# Altium schematic symbol library tomorn.SCHLIB: 47 symbols
Pins are listed as number, name and electrical type; pins without a type are passive.

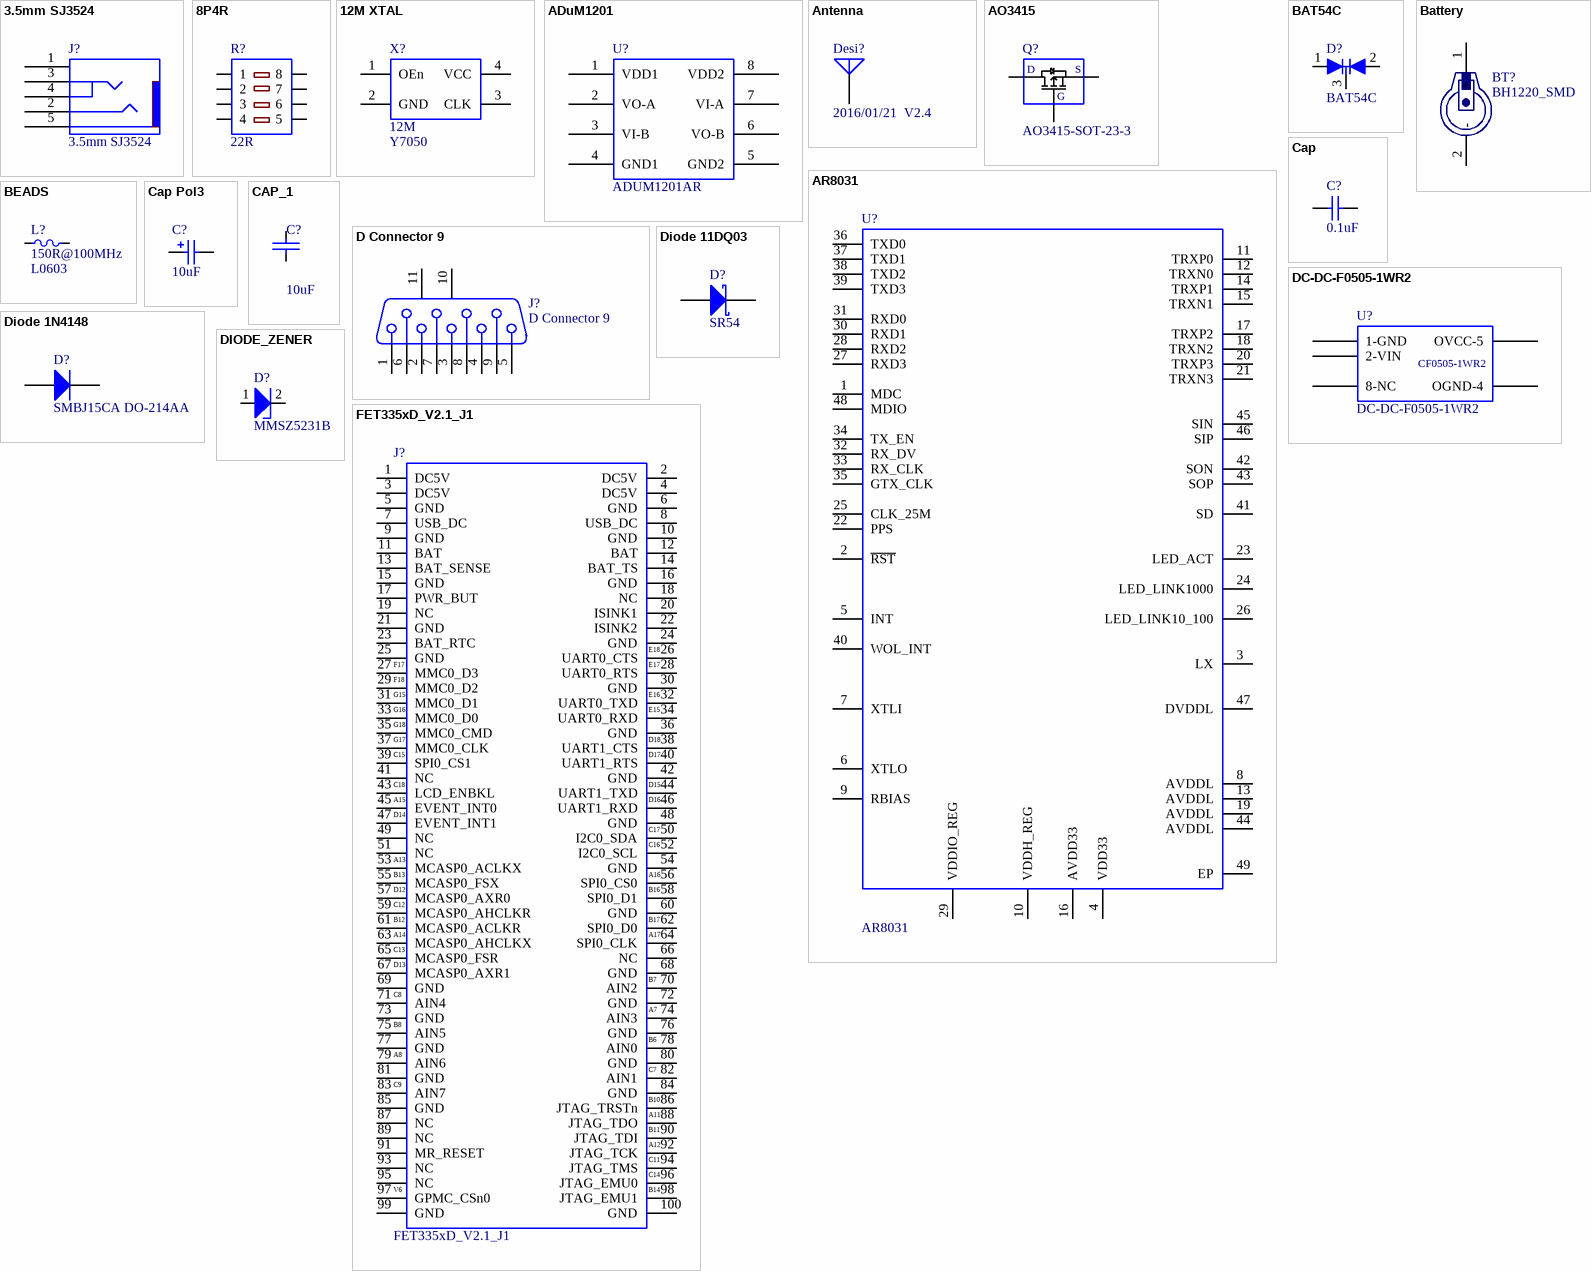
[diagram p0: symbols 3.5mm SJ3524 to FET335xD_V2.1_J1]

## 3.5mm SJ3524
designator J?
footprint 3.5mm SJ3524
pins: 1, 2, 3, 4, 5

## 8P4R
designator R?, comment 22R
footprint R0603-8P4R
pins: 1, 2, 3, 4, 5, 6, 7, 8

## 12M XTAL
designator X?, comment 12M  value Y7050
footprint Y7050
pins: 1 OEn, 2 GND, 3 CLK, 4 VCC

## ADuM1201
designator U?, comment ADUM1201AR
footprint SO8_N - ADUM1201 (SOIC, 8-Leads, Body 4.9x3.9mm, Pitch 1.27mm, IPC Medium Density)
pins: 1 VDD1, 2 VO-A, 3 VI-B, 4 GND1, 5 GND2, 6 VO-B, 7 VI-A, 8 VDD2

## Antenna
designator Desi?, comment 2016/01/21  V2.4
Generic Antenna; Published: 24-Mar-1999; LatestRevisionDate: 17-Jul-2002; LatestRevisionNote: Re-released for DXP Platform.; PackageReference: PIN1; Publisher: Altium Limited
footprint LOGO
footprint LOGO
pins: 1 A

## AO3415
designator Q?, comment AO3415-SOT-23-3
footprint SOT23
pins: 1 G, 2 S, 3 D

## AR8031
designator U?
Atheros  10/100/1000 Gigabit Ethernet
footprint QFN48C40P600X600_AR8031 (QFN, 48-Leads, Body 5.8x5.8mm (max), Pitch 0.40mm, IPC Medium Density)
pins: 1 MDC, 2 ~{RST}, 3 LX, 4 VDD33, 5 INT, 6 XTLO, 7 XTLI, 8 AVDDL, 9 RBIAS, 10 VDDH_REG, 11 TRXP0, 12 TRXN0, 13 AVDDL, 14 TRXP1, 15 TRXN1, 16 AVDD33, 17 TRXP2, 18 TRXN2, 19 AVDDL, 20 TRXP3, 21 TRXN3, 22 PPS, 23 LED_ACT, 24 LED_LINK1000, 25 CLK_25M, 26 LED_LINK10_100, 27 RXD3, 28 RXD2, 29 VDDIO_REG, 30 RXD1, 31 RXD0, 32 RX_DV, 33 RX_CLK, 34 TX_EN, 35 GTX_CLK, 36 TXD0, 37 TXD1, 38 TXD2, 39 TXD3, 40 WOL_INT, 41 SD, 42 SON, 43 SOP, 44 AVDDL, 45 SIN, 46 SIP, 47 DVDDL, 48 MDIO, 49 EP

## BAT54C
designator D?
SOT23-3_D
footprint SOT23-3D-C95P280X100 (SOT23, 3-Leads, Body 3.0x2.9mm (max), Pitch 0.95mm, IPC Medium Density)
pins: 1, 2, 3

## Battery
designator BT?, comment BH1220_SMD
footprint BH-1220 Battery
pins: 1 +, 2 -

## BEADS
designator L?, comment 150R@100MHz  value L0603
0603
footprint L0603_M1608
pins: 1, 2

## Cap
designator C?, comment value 0.1uF  (hidden comment: C0603)
Capacitor; Published: 8-Jun-2000; LatestRevisionDate: 17-Jul-2002; LatestRevisionNote: Re-released for DXP Platform.; PackageReference: RAD-0.3; Publisher: Altium Limited
footprint RAD-0.3 (Capacitor; 2 Leads)
footprint VP32-3.2 (Capacitor, Ceramic, Thru-Hole, Dipped Radial; Body 5.1 x 3.2 mm (WxT) Pin Spacing 2.54 mm (typ))
footprint VP45-3.2 (Capacitor, Ceramic, Thru-Hole, Dipped Radial; Body 7.8 x 3.2 mm (WxT) Pin Spacing 5.08 mm (typ))
simulation model CAP (Capacitor)
signal-integrity model Cap
footprint C0603_M1608 (Chip Capacitor, 2-Leads, Body 1.6x0.8mm, IPC Medium Density)
pins: 1, 2

## Cap Pol3
designator C?  value 10uF  (hidden comment: Cap Pol3)
Polarized Capacitor (Surface Mount); Published: 8-Jun-2000; LatestRevisionDate: 29-May-2009; LatestRevisionNote: IPC-7351 Footprint Added.; PackageReference: C0805; Publisher: Altium Limited; PackageDescription: Chip Capacitor
footprint TC3216A
footprint 1812 (Chip Capacitor, Body 4.5x3.2mm, IPC High Density)
footprint 1825 (Chip Capacitor, Body 4.5x6.4mm, IPC High Density)
footprint C2225 (Chip Capacitor, Body 5.7x6.4mm, IPC High Density)
footprint 2220 (Chip Capacitor, Body 5.7x5.0mm, IPC High Density)
simulation model CAP (Capacitor)
signal-integrity model Cap Pol
pins: 1, 2
1 alternate drawing of the same symbol

## CAP_1
designator C?, comment 10uF
value: C0805
footprint C0805_M2013 (Chip Capacitor, 2-Leads, Body 2.0x1.3mm, IPC Medium Density)
footprint C0603_M1608
pins: 1, 2
2 alternate drawings of the same symbol

## D Connector 9
designator J?
Receptacle Assembly, 9 Position, Right Angle; PackageDocument: O; Positions: 9; Published: 15-Jun-2001; LatestRevisionDate: 17-Jul-2002; LatestRevisionNote: Re-released for DXP Platform.; DatasheetDocument: 1-Sep-1999; PackageReference: 788750; Publisher: Altium Limited; Orientation: Right Angle; Gender: Receptacle
footprint DB9/M
signal-integrity model Connector
pins: 1, 2, 3, 4, 5, 6, 7, 8, 9, 10 MH1, 11 MH2

## DC-DC-F0505-1WR2
designator U?
footprint CF0505-1WR2
pins: 1 1-GND, 2 2-VIN, 4 OGND-4, 5 OVCC-5, 8 8-NC
text: CF0505-1WR2

## Diode 1N4148
designator D?, comment SMBJ15CA DO-214AA
High Conductance Fast Diode; Published: 8-Jun-2000; LatestRevisionDate: 17-Jul-2002; LatestRevisionNote: Re-released for DXP Platform.; DatasheetDocument: 1997; PackageReference: DO-35; Publisher: Altium Limited; Code_JEDEC: DO-204-AH; ComponentLink1Description: Manufacturer Link; ComponentLink1URL: http://www.fairchildsemi.com/; ComponentLink2Description: Datasheet; ComponentLink2URL: http://www.fairchildsemi.com/ds/1N%2F1N4148.pdf
footprint DIODE-SK34A
simulation model 1N4148 (DIODE)
signal-integrity model 1N4148
pins: 1 A, 2 K

## Diode 11DQ03
designator D?, comment SR54
Schottky Rectifier; Published: 8-Jun-2000; LatestRevisionDate: 17-Jul-2002; LatestRevisionNote: Re-released for DXP Platform.; DatasheetVersion: Dec-1997; PackageReference: DO-204AL; Publisher: Altium Limited; PackageDescription: Diode, Axial; Body 5.2 x 2.7 mm (LxDia. max), Lead Dia. 0.86 mm (max); Code_JEDEC: DO-204-AL; ComponentLink1Description: Manufacturer Link; ComponentLink1URL: http://www.irf.com/; ComponentLink2Description: Datasheet; ComponentLink2URL: http://www.irf.com/product-info/datasheets/data/11dq03.pdf
footprint SMB/DO-214AA
simulation model 11DQ03 (DIODE)
pins: 1 A, 2 K

## DIODE_ZENER
designator D?, comment MMSZ5231B
footprint SOD-523
footprint SOD123
pins: 1 A, 2 K

## FET335xD_V2.1_J1
designator J?
Value: FET335xD_V2.1_J1
footprint 1.27MM SMT CONNECT PIN
pins: 1 DC5V, 2 DC5V, 3 DC5V, 4 DC5V, 5 GND, 6 GND, 7 USB_DC, 8 USB_DC, 9 GND, 10 GND, 11 BAT, 12 BAT, 13 BAT_SENSE, 14 BAT_TS, 15 GND, 16 GND, 17 PWR_BUT, 18 NC, 19 NC, 20 ISINK1, 21 GND, 22 ISINK2, 23 BAT_RTC, 24 GND, 25 GND, 26 UART0_CTS, 27 MMC0_D3, 28 UART0_RTS, 29 MMC0_D2, 30 GND, 31 MMC0_D1, 32 UART0_TXD, 33 MMC0_D0, 34 UART0_RXD, 35 MMC0_CMD, 36 GND, 37 MMC0_CLK, 38 UART1_CTS, 39 SPI0_CS1, 40 UART1_RTS, 41 NC, 42 GND, 43 LCD_ENBKL, 44 UART1_TXD, 45 EVENT_INT0, 46 UART1_RXD, 47 EVENT_INT1, 48 GND, 49 NC, 50 I2C0_SDA, 51 NC, 52 I2C0_SCL, 53 MCASP0_ACLKX, 54 GND, 55 MCASP0_FSX, 56 SPI0_CS0, 57 MCASP0_AXR0, 58 SPI0_D1, 59 MCASP0_AHCLKR, 60 GND, 61 MCASP0_ACLKR, 62 SPI0_D0, 63 MCASP0_AHCLKX, 64 SPI0_CLK, 65 MCASP0_FSR, 66 NC, 67 MCASP0_AXR1, 68 GND, 69 GND, 70 AIN2, 71 AIN4, 72 GND, 73 GND, 74 AIN3, 75 AIN5, 76 GND, 77 GND, 78 AIN0, 79 AIN6, 80 GND, 81 GND, 82 AIN1, 83 AIN7, 84 GND, 85 GND, 86 JTAG_TRSTn, 87 NC, 88 JTAG_TDO, 89 NC, 90 JTAG_TDI, 91 MR_RESET, 92 JTAG_TCK, 93 NC, 94 JTAG_TMS, 95 NC, 96 JTAG_EMU0, 97 GPMC_CSn0, 98 JTAG_EMU1, 99 GND, 100 GND
text: E18; F17; E17; F18; G15; E16; G16; E15; G18; G17; D18; C15; D17; C18; D15; A15; D16; D14; C17; C16; A13; B13; A16; D12; B16; C12; B12; B17; A14; A17; C13; D13; B7; C8; A7; B8; B6; A8; C7; C9; B10; A11; B11; A12; C11; C14; V6; B14

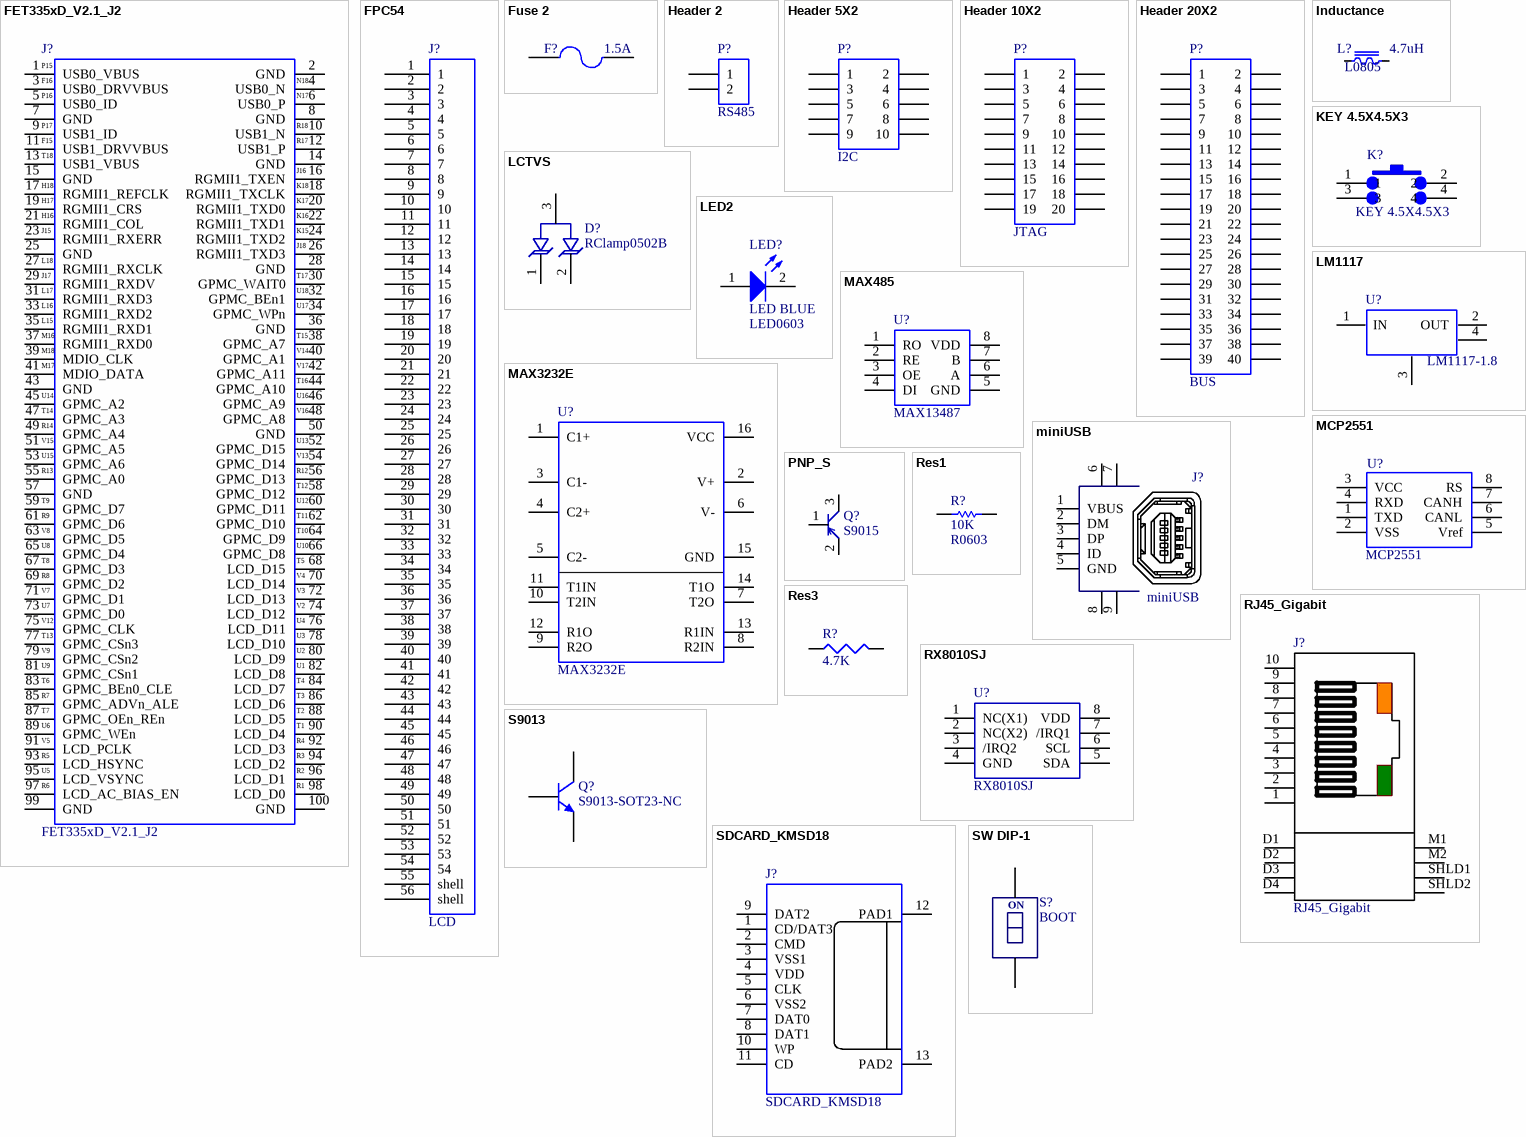
[diagram p1: symbols FET335xD_V2.1_J2 to SW DIP-1]

## FET335xD_V2.1_J2
designator J?
Value: FET335xD_V2.1_J2
footprint 1.27MM SMT CONNECT PIN
pins: 1 USB0_VBUS, 2 GND, 3 USB0_DRVVBUS, 4 USB0_N, 5 USB0_ID, 6 USB0_P, 7 GND, 8 GND, 9 USB1_ID, 10 USB1_N, 11 USB1_DRVVBUS, 12 USB1_P, 13 USB1_VBUS, 14 GND, 15 GND, 16 RGMII1_TXEN, 17 RGMII1_REFCLK, 18 RGMII1_TXCLK, 19 RGMII1_CRS, 20 RGMII1_TXD0, 21 RGMII1_COL, 22 RGMII1_TXD1, 23 RGMII1_RXERR, 24 RGMII1_TXD2, 25 GND, 26 RGMII1_TXD3, 27 RGMII1_RXCLK, 28 GND, 29 RGMII1_RXDV, 30 GPMC_WAIT0, 31 RGMII1_RXD3, 32 GPMC_BEn1, 33 RGMII1_RXD2, 34 GPMC_WPn, 35 RGMII1_RXD1, 36 GND, 37 RGMII1_RXD0, 38 GPMC_A7, 39 MDIO_CLK, 40 GPMC_A1, 41 MDIO_DATA, 42 GPMC_A11, 43 GND, 44 GPMC_A10, 45 GPMC_A2, 46 GPMC_A9, 47 GPMC_A3, 48 GPMC_A8, 49 GPMC_A4, 50 GND, 51 GPMC_A5, 52 GPMC_D15, 53 GPMC_A6, 54 GPMC_D14, 55 GPMC_A0, 56 GPMC_D13, 57 GND, 58 GPMC_D12, 59 GPMC_D7, 60 GPMC_D11, 61 GPMC_D6, 62 GPMC_D10, 63 GPMC_D5, 64 GPMC_D9, 65 GPMC_D4, 66 GPMC_D8, 67 GPMC_D3, 68 LCD_D15, 69 GPMC_D2, 70 LCD_D14, 71 GPMC_D1, 72 LCD_D13, 73 GPMC_D0, 74 LCD_D12, 75 GPMC_CLK, 76 LCD_D11, 77 GPMC_CSn3, 78 LCD_D10, 79 GPMC_CSn2, 80 LCD_D9, 81 GPMC_CSn1, 82 LCD_D8, 83 GPMC_BEn0_CLE, 84 LCD_D7, 85 GPMC_ADVn_ALE, 86 LCD_D6, 87 GPMC_OEn_REn, 88 LCD_D5, 89 GPMC_WEn, 90 LCD_D4, 91 LCD_PCLK, 92 LCD_D3, 93 LCD_HSYNC, 94 LCD_D2, 95 LCD_VSYNC, 96 LCD_D1, 97 LCD_AC_BIAS_EN, 98 LCD_D0, 99 GND, 100 GND
text: P15; F16; N18; P16; N17; P17; R18; F15; R17; T18; J16; H18; K18; H17; K17; H16; K16; J15; K15; J18; L18; J17; T17; L17; U18; L16; U17; L15; M16; T15; M18; V14; M17; V17; T16; U14; U16; T14; V16; R14; V15; U13; U15; V13; R13; R12; T12; T9; U12; R9; T11; V8; T10; U8; U10; T8; T5; R8; V4; V7; V3; U7; V2; V12; U4; T13; U3; V9; U2; U9; U1; T6; T4; R7; T3; T7; T2; U6; T1; V5; R4; R5; R3; U5; R2; R6; R1

## FPC54
designator J?, comment LCD
footprint FPC54
pins: 1, 2, 3, 4, 5, 6, 7, 8, 9, 10, 11, 12, 13, 14, 15, 16, 17, 18, 19, 20, 21, 22, 23, 24, 25, 26, 27, 28, 29, 30, 31, 32, 33, 34, 35, 36, 37, 38, 39, 40, 41, 42, 43, 44, 45, 46, 47, 48, 49, 50, 51, 52, 53, 54, 55 shell, 56 shell

## Fuse 2
designator F?  value 1.5A  (hidden comment: Fuse 2)
Fuse; Published: 8-Jun-2000; LatestRevisionDate: 17-Jul-2002; LatestRevisionNote: Re-released for DXP Platform.; PackageReference: PIN-W2/E2.8; Publisher: Altium Limited; PackageDescription: Thru-Hole; 2 Leads
footprint R_1210
simulation model FUSE (Spice Subcircuit)
pins: 1, 2

## Header 2
designator P?, comment RS485
Header, 2-Pin; LatestRevisionDate: 17-Jul-2002; LatestRevisionNote: Re-released for DXP Platform.; Publisher: Altium Limited
footprint 2EDGKA-5.08-2P
signal-integrity model Connector
pins: 1, 2

## Header 5X2
designator P?, comment I2C
Header, 5-Pin, Dual row; LatestRevisionDate: 17-Jul-2002; LatestRevisionNote: Re-released for DXP Platform.; Publisher: Altium Limited
signal-integrity model Connector
footprint IDC10S
pins: 1, 2, 3, 4, 5, 6, 7, 8, 9, 10

## Header 10X2
designator P?, comment JTAG
Header, 10-Pin, Dual row; LatestRevisionDate: 17-Jul-2002; LatestRevisionNote: Re-released for DXP Platform.; Publisher: Altium Limited
footprint IDC20S
signal-integrity model Connector
pins: 1, 2, 3, 4, 5, 6, 7, 8, 9, 10, 11, 12, 13, 14, 15, 16, 17, 18, 19, 20

## Header 20X2
designator P?, comment BUS
Header, 20-Pin, Dual row; LatestRevisionDate: 17-Jul-2002; LatestRevisionNote: Re-released for DXP Platform.; Publisher: Altium Limited
footprint HDR2X20 (Connector; Header; 20x2 Position)
signal-integrity model Connector
footprint IDC40S (ICD-2.0mm-40PIN)
pins: 1, 2, 3, 4, 5, 6, 7, 8, 9, 10, 11, 12, 13, 14, 15, 16, 17, 18, 19, 20, 21, 22, 23, 24, 25, 26, 27, 28, 29, 30, 31, 32, 33, 34, 35, 36, 37, 38, 39, 40

## Inductance
designator L?, comment 4.7uH  value L0805
10X10_smd_5%
footprint L0805 (Chip Inductor, 2-Leads, Body 2.0x1.2mm, IPC Medium Density)
pins: 1, 2

## KEY 4.5X4.5X3
designator K?
footprint SWPB-4
pins: 1, 2, 3, 4

## LCTVS
designator D?  value RClamp0502B  (hidden comment: LCTVS)
footprint SOT-523 (SOT23, 3-Leads, Body 1.7x1.8mm (max), Pitch 0.50mm, IPC Medium Density)
pins: 1, 2, 3

## LED2
designator LED?, comment LED BLUE  value LED0603
Typical RED, GREEN, YELLOW, AMBER GaAs LED; Published: 8-Jun-2000; LatestRevisionDate: 17-Jul-2002; LatestRevisionNote: Re-released for DXP Platform.; PackageVersion: Feb-2002; PackageReference: 3.2X1.6X1.1; Publisher: Altium Limited; PackageDescription: SM LED; 2 Flat Leads
footprint LED0603_M1608 (Molded Diode, 2-Leads, Body 1.9x0.8mm, IPC Medium Density)
simulation model LED2 (Diode)
pins: 1 A, 2 K

## LM1117
designator U?  value LM1117-1.8  (hidden comment: LM1117)
footprint LM1117 (SOT223)
pins: 1 IN, 2 OUT, 3 GND, 4

## MAX485
designator U?, comment MAX13487
SOIC8
footprint SOIC-8N
pins: 1 RO, 2 RE, 3 OE, 4 DI, 5 GND, 6 A, 7 B, 8 VDD

## MAX3232E
designator U?
TI SOIC16
footprint SOIC-16N
pins: 1 C1+, 2 V+, 3 C1-, 4 C2+, 5 C2-, 6 V-, 7 T2O, 8 R2IN, 9 R2O, 10 T2IN, 11 T1IN, 12 R1O, 13 R1IN, 14 T1O, 15 GND, 16 VCC

## MCP2551
designator U?
SOIC8
footprint SOIC-8N
pins: 1 TXD, 2 VSS, 3 VCC, 4 RXD, 5 Vref, 6 CANL, 7 CANH, 8 RS

## miniUSB
designator J?
footprint MiniUSB
pins: 1 VBUS, 2 DM, 3 DP, 4 ID, 5 GND, 6, 7, 8, 9

## PNP_S
designator Q?, comment S9015
footprint SOT23
pins: 1 B, 2 E, 3 C

## Res1
designator R?, comment 10K  value R0603
R0603; Published: 8-Jun-2000; LatestRevisionDate: 17-Jul-2002; LatestRevisionNote: Re-released for DXP Platform.; PackageReference: AXIAL-0.3; Publisher: Altium Limited; PackageDescription: Axial Device, Thru-Hole; 2 Leads; 0.3 in Pin Spacing
simulation model RESISTOR (Resistor)
signal-integrity model Res
footprint R0603_M1608 (Chip Capacitor, 2-Leads, Body 1.6x0.8mm, IPC Medium Density)
pins: 1, 2

## Res3
designator R?  value 4.7K  (hidden comment: Res3)
Resistor; Published: 8-Jun-2000; LatestRevisionDate: 29-May-2009; LatestRevisionNote: IPC-7351 Footprint Added.; PackageReference: J1-0603; Publisher: Altium Limited; PackageDescription: Chip Resistor
footprint 0603
footprint 14-1210 (Chip Resistor, Body 3.2x2.5mm, IPC High Density)
footprint 12Z-2010 (Chip Resistor, Body 5.0x2.5mm, IPC High Density)
footprint RESC6332 (Chip Resistor, Body 6.3x3.2mm, IPC High Density)
simulation model RESISTOR (Resistor)
signal-integrity model Res
pins: 1, 2

## RJ45_Gigabit
designator J?
footprint RG45_Gagabit
pins: 1, 2, 3, 4, 5, 6, 7, 8, 9, 10, D1, D2, D3, D4, M1, M2, SHLD1, SHLD2

## RX8010SJ
designator U?
footprint SOP-8 - RX8010SJ
pins: 1 NC(X1), 2 NC(X2), 3 /IRQ2, 4 GND, 5 SDA, 6 SCL, 7 /IRQ1, 8 VDD

## S9013
designator Q?, comment S9013-SOT23-NC
footprint SOT23
pins: 1 B, 2 E, 3 C

## SDCARD_KMSD18
designator J?
footprint SDcard_KDMS18
pins: 1 CD/DAT3, 2 CMD, 3 VSS1, 4 VDD, 5 CLK, 6 VSS2, 7 DAT0, 8 DAT1, 9 DAT2, 10 WP, 11 CD, 12 PAD1, 13 PAD2

## SW DIP-1
designator S?, comment BOOT
footprint SWITCH_1P
pins: 1, 2
text: ON

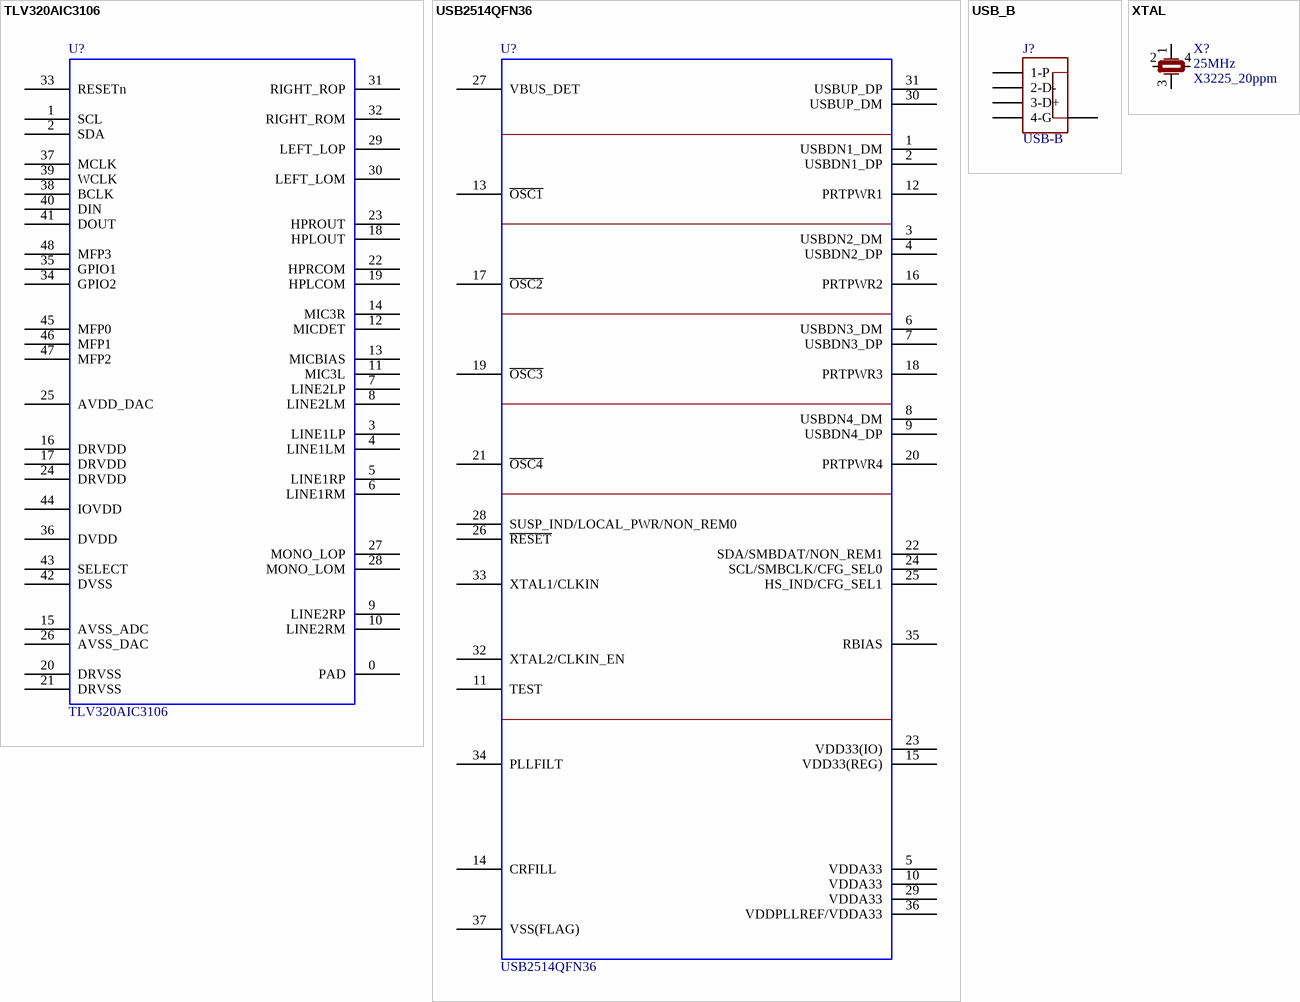
[diagram p2: symbols TLV320AIC3106 to XTAL]

## TLV320AIC3106
designator U?
AUDIO ENCODE
footprint QFN48(TLV320)
pins: 0 PAD, 1 SCL, 2 SDA, 3 LINE1LP, 4 LINE1LM, 5 LINE1RP, 6 LINE1RM, 7 LINE2LP, 8 LINE2LM, 9 LINE2RP, 10 LINE2RM, 11 MIC3L, 12 MICDET, 13 MICBIAS, 14 MIC3R, 15 AVSS_ADC, 16 DRVDD, 17 DRVDD, 18 HPLOUT, 19 HPLCOM, 20 DRVSS, 21 DRVSS, 22 HPRCOM, 23 HPROUT, 24 DRVDD, 25 AVDD_DAC, 26 AVSS_DAC, 27 MONO_LOP, 28 MONO_LOM, 29 LEFT_LOP, 30 LEFT_LOM, 31 RIGHT_ROP, 32 RIGHT_ROM, 33 RESETn, 34 GPIO2, 35 GPIO1, 36 DVDD, 37 MCLK, 38 BCLK, 39 WCLK, 40 DIN, 41 DOUT, 42 DVSS, 43 SELECT, 44 IOVDD, 45 MFP0, 46 MFP1, 47 MFP2, 48 MFP3

## USB2514QFN36
designator U?
footprint QFN36(USB251x)
pins: 1 USBDN1_DM, 2 USBDN1_DP, 3 USBDN2_DM, 4 USBDN2_DP, 5 VDDA33, 6 USBDN3_DM, 7 USBDN3_DP, 8 USBDN4_DM, 9 USBDN4_DP, 10 VDDA33, 11 TEST, 12 PRTPWR1, 13 ~{OSC1}, 14 CRFILL, 15 VDD33(REG), 16 PRTPWR2, 17 ~{OSC2}, 18 PRTPWR3, 19 ~{OSC3}, 20 PRTPWR4, 21 ~{OSC4}, 22 SDA/SMBDAT/NON_REM1, 23 VDD33(IO), 24 SCL/SMBCLK/CFG_SEL0, 25 HS_IND/CFG_SEL1, 26 ~{RESET}, 27 VBUS_DET, 28 SUSP_IND/LOCAL_PWR/NON_REM0, 29 VDDA33, 30 USBUP_DM, 31 USBUP_DP, 32 XTAL2/CLKIN_EN, 33 XTAL1/CLKIN, 34 PLLFILT, 35 RBIAS, 36 VDDPLLREF/VDDA33, 37 VSS(FLAG)

## USB_B
designator J?, comment USB-B
footprint USB-C
pins: 0, 1 1-P, 2 2-D-, 3 3-D+, 4 4-G

## XTAL
designator X?, comment 25MHz  value X3225_20ppm
X3225_20ppm
footprint Crystals_3225
pins: 1, 2, 3, 4